# EAGLE library part NT3H1X01 (library ntagi2c)
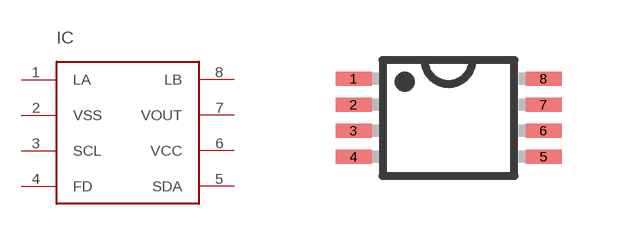
[diagram p0: symbol with the pads of TSSOP-8; footprint TSSOP-8]

Designator prefix IC

## NT3H1X01W0FTT  [TSSOP-8]
1  LA
2  VSS
3  SCL
4  FD
5  SDA
6  VCC
7  VOUT
8  LB

## Footprint TSSOP-8 (pad centres in mm)
smd 0.9 x 0.35: 1 -2.375,0.975; 2 -2.375,0.325; 3 -2.375,-0.325; 4 -2.375,-0.975; 5 2.375,-0.975; 6 2.375,-0.325; 7 2.375,0.325; 8 2.375,0.975